# Altium footprint library Connector Footprints.PcbLib: 66 footprints (part 3 of 5)
Each footprint in its own frame and in the unit in brackets; x right, y up, seen from the top. Pads: shape width x height; smd on the part's side, far side on the other; paste and mask are expansions set on the pad; w line width, h text height; cw(c..) or ccw(c..) is an arc to the next point about the centre after c.
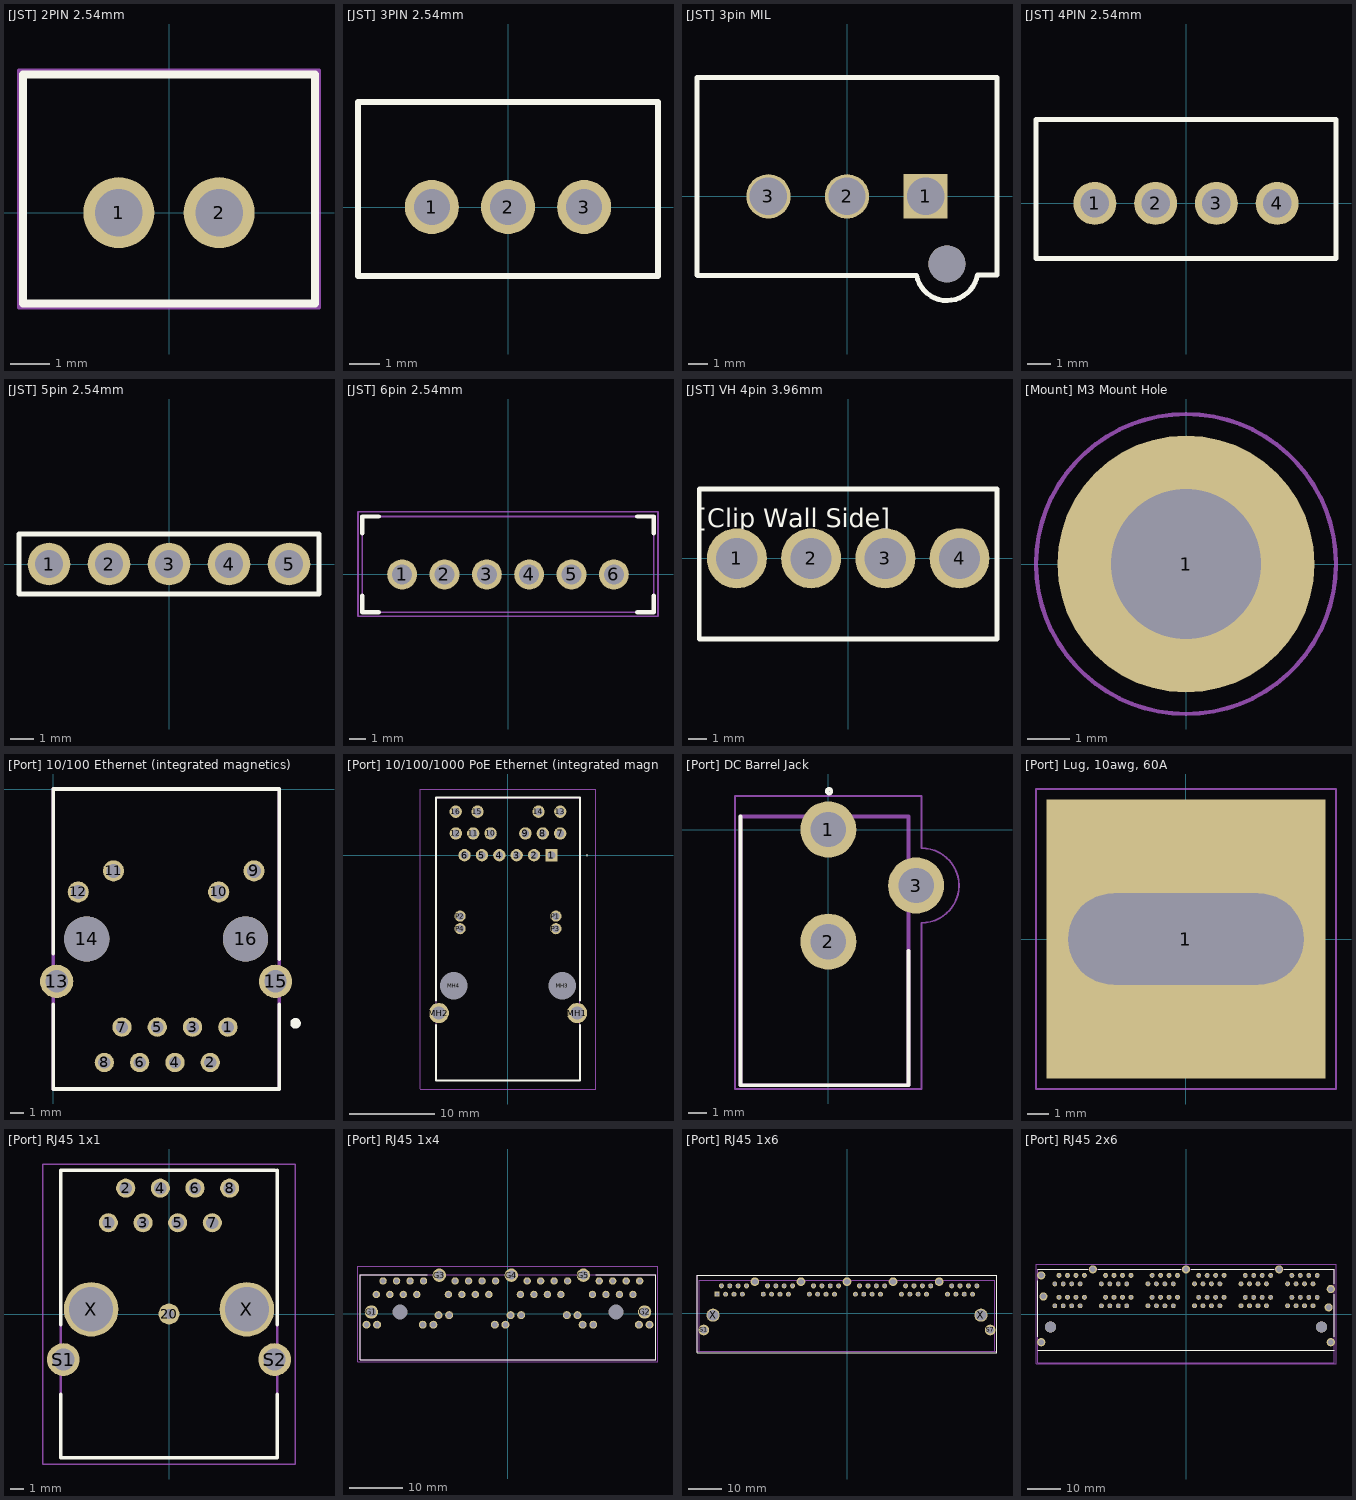
[diagram p2: the footprints below, top view; thin cyan lines are the x and y axes]

## [JST] 2PIN 2.54mm [mm]
pads (2):
  round 1.8 hole 1.2: 1(-1.27,0) 2(1.27,0)
Top Overlay:
  lines w0.2: -3.7,-2.3 -3.7,3.5 3.7,3.5 3.7,-2.3 -3.7,-2.3
Part Outline:
  lines w0.1: -3.8,-2.4 3.8,-2.4 3.8,3.6 -3.8,3.6 -3.8,-2.4
3D body "JST 2_54 2x.STEP": height 7.88, standoff -2.2, extent -3.67,-2.275 3.67,3.475

## [JST] 3PIN 2.54mm [mm]
pads (3):
  round 1.8 hole 1.2: 1(-2.54,0) 2(0,0) 3(2.54,0)
Top Overlay:
  lines w0.2: -5,-2.3 5,-2.3 5,3.5 -5,3.5 -5,-2.3
3D body "JST 2_54 3x.STEP": height 7.88, standoff -2.2, extent -5.01,-2.325 4.87,3.425

## [JST] 3pin MIL [mm]
pads (4):
  rect 2.24x2.24 hole 1.89: 1(3.96,0)
  round 2.24 hole 1.89: 2(0,0) 3(-3.96,0)
  round 1.86 hole 1.86 unplated: ""(5.04,-3.4)
Top Overlay:
  lines w0.254: 7.565,-3.952 6.912,-3.952 6.577,-3.952 cw(c5.043,-3.696) 3.513,-3.98 -7.545,-3.98 -7.565,-3.96 -7.565,6 7.565,6 7.565,-3.25 7.565,-3.895
3D body "c-1877285-3-c-3d.stp": height 12.01, standoff -3.61, extent -7.605,-4 7.525,5.885

## [JST] 4PIN 2.54mm [mm]
pads (4):
  round 1.8 hole 1.2: 1(-3.81,0) 2(-1.27,0) 3(1.27,0) 4(3.81,0)
Top Overlay:
  lines w0.2: -6.27,-2.3 -6.27,3.5 6.27,3.5 6.27,-2.3 -6.27,-2.3
Part Outline:
  lines w0.1: -6.27,-2.3 6.27,-2.3 6.27,3.492 6.262,3.5 -6.27,3.5 -6.27,-2.3
3D body "JST 2_54 4x.STEP": height 6.88, standoff -3.2, extent -6.27,-2.175 6.15,3.575

## [JST] 5pin 2.54mm [mm]
pads (5):
  round 1.8 hole 1.2: 1(-5.08,0) 2(-2.54,0) 3(0,0) 4(2.54,0) 5(5.08,0)
Top Overlay:
  lines w0.2: -6.35,-1.27 -6.35,1.27 6.35,1.27 6.35,-1.27 -6.35,-1.27
3D body "5pin JST female.step": height 7.14, standoff -3.45, extent -7.455,-2.405 7.455,3.5

## [JST] 6pin 2.54mm [mm] "2.54mm pitch"
pads (6):
  round 1.8 hole 1.2: 1(-6.35,0) 2(-3.81,0) 3(-1.27,0) 4(1.27,0) 5(3.81,0) 6(6.35,0)
Top Overlay:
  lines w0.254: -8.75,-1.275 -8.75,-2.275 -7.75,-2.275 ; -8.75,2.475 -8.75,3.475 -7.75,3.475 ; 7.75,-2.275 8.75,-2.275 8.75,-1.275 ; 7.75,3.475 8.75,3.475 8.75,2.475
Physical Drawing:
  lines w0.1: -8.75,-2.275 8.75,-2.275 8.75,3.475 -8.75,3.475 -8.75,-2.275
Part Outline:
  lines w0.1: -9,-2.5 9,-2.5 9,3.75 -9,3.75 -9,-2.5
3D body "JST 2_54 6x.STEP": height 6.88, standoff -3.2, extent -8.75,-2.275 8.75,3.475

## [JST] VH 4pin 3.96mm [mm]
pads (4):
  round 3.2 hole 2.2: 1(-5.94,0) 2(-1.98,0) 3(1.98,0) 4(5.94,0)
Top Overlay:
  lines w0.254: -7.94,-4.3 7.94,-4.3 7.94,3.7 -7.94,3.7 -7.94,-4.3
  text "[Clip Wall Side]" at -8.064,1.674 h1
3D body "JST VH 3.96mm 4pin.step": height 11.7, standoff -2.9, extent -7.94,-4.5 7.96,3.2

## [Mount] M3 Mount Hole [mm] "Place at least 4.5mm from board edge. Plated."
pads (1):
  round 6 hole 3.5: 1(0,0)
Part Outline:
  circle w0.1: c0,0 r3.5

## [Port] 10/100 Ethernet (integrated magnetics) [mm] "J0011D01BNL"
pads (16):
  round 1.39 hole 0.89: 1(12.575,-17.14) 2(11.305,-19.68) 3(10.035,-17.14) 4(8.765,-19.68) 5(7.495,-17.14) 6(6.225,-19.68) 7(4.955,-17.14) 8(3.685,-19.68)
  round 1.52 hole 1.02: 9(14.455,-5.89) 10(11.915,-7.41) 11(4.345,-5.89) 12(1.805,-7.41)
  round 2.4 hole 1.6: 13(0.255,-13.84) 15(16.005,-13.84)
  round 3.25 hole 3.25 unplated: 14(2.415,-10.79) 16(13.845,-10.79)
Top Overlay:
  circle w0.4: c17.443,-16.865 r0.178
  lines w0.254: 0,-15.504 0,-21.59 16.26,-21.59 16.26,-15.504 ; 0,-11.839 0,0 16.26,0 16.26,-12.258
Physical Drawing:
  lines w0.254: 0,-21.59 0,0 16.26,0 16.26,-21.59 0,-21.59
3D body "J0011D01BNL.stp": height 13.45, standoff -3.73, extent 0.025,-21.587 16.255,-0.004

## [Port] 10/100/1000 PoE Ethernet (integrated magnetics) [mm]
pads (24):
  rect 1.446x1.446 hole 0.89: 1(5.075,0)
  round 1.446 hole 0.89: 2(3.045,0) 3(1.015,0) 4(-1.015,0) 5(-3.045,0) 6(-5.075,0) 7(6.09,2.54) 8(4.06,2.54) 9(2.03,2.54) 10(-2.03,2.54) 11(-4.06,2.54) 12(-6.09,2.54) 13(6.1,5.08) 14(3.56,5.08) 15(-3.56,5.08) 16(-6.1,5.08)
  round 2.355 hole 1.57: MH1(8.065,-18.42) MH2(-8.065,-18.42)
  round 1.6 hole 3.2 unplated: MH3(6.35,-15.24) MH4(-6.35,-15.24)
  round 1.3 hole 0.89: P1(5.59,-7.11) P2(-5.59,-7.11) P3(5.59,-8.58) P4(-5.59,-8.58)
Top Overlay:
  lines w0.1: 9.175,0 cw(c9.225,0) 9.275,0 cw(c9.225,0) 9.175,0
  lines w0.2: -8.395,-19.8 -8.395,-26.29 8.395,-26.29 8.395,-19.8 ; -8.395,-17 -8.395,6.73 8.395,6.73 8.395,-17
Physical Drawing:
  lines w0.1: -8.395,-26.29 8.395,-26.29 8.395,6.73 -8.395,6.73 -8.395,-26.29
Part Outline:
  lines w0.1: -10.242,-27.29 10.242,-27.29 10.243,7.73 -10.242,7.73 -10.242,-27.29
3D body "85789-1006.stp": height 14.98, standoff -3.77, extent -9.59,-26.285 9.597,6.725

## [Port] DC Barrel Jack [mm]
pads (3):
  round 3 hole 1.9: 1(0,0) 2(0,-6) 3(4.7,-3)
Top Overlay:
  circle w0.2: c0.039,2.051 r0.119
  lines w0.2: -4.7,0.7 -4.7,-13.7 4.3,-13.7 4.3,-6.5
Physical Drawing:
  lines w0.2: -4.7,-13.7 4.3,-13.7 4.3,0.7 -4.7,0.7 -4.7,-13.7
Part Outline:
  lines w0.1: -5,-13.9 -5,1.8 5,1.8 5,-1 cw(c5,-3) 5,-5 5,-13.9 -5,-13.9
3D body "PJ-102A.stp": height 11.04, standoff -3.46, extent -4.42,-13.7 4.98,0.7

## [Port] Lug, 10awg, 60A [mm]
pads (1):
  rect 13x13 hole 4.25 slot 11 at 0 deg: 1(0,0)
Part Outline:
  lines w0.1: -7,-7 7,-7 7,7 -7,7 -7,-7
3D body "[Port] Lug, 10awg, 60A.stp": height 12.83, standoff -2.6, extent -4.267,-4.318 4.267,4.318

## [Port] RJ45 1x1 [mm] "1-1734580-1"
pads (13):
  round 1.4 hole 0.9: 1(-4.445,6.69) 2(-3.175,9.23) 3(-1.905,6.69) 4(-0.635,9.23) 5(0.635,6.69) 6(1.905,9.23) 7(3.175,6.69) 8(4.445,9.23)
  round 1.524 hole 0.762: 20(0,0)
  round 2.4 hole 1.6: S1(-7.745,-3.34) S2(7.745,-3.34)
  round 4 hole 3.25 unplated: X(-5.715,0.34) X(5.715,0.34)
Top Overlay:
  lines w0.1: 7.745,10.55 7.94,10.55
  lines w0.25: -7.94,-10.55 7.94,-10.55
  lines w0.254: -7.94,-10.55 -7.94,-5.88 ; -7.94,-0.8 -7.94,10.55 7.745,10.55 ; 7.94,-10.55 7.94,-5.88 ; 7.94,-0.8 7.94,10.55
Physical Drawing:
  lines w0.2: -7.94,-10.55 -7.94,10.55 7.94,10.55 7.94,-10.55 -7.94,-10.55
Part Outline:
  lines w0.1: -9.25,-11 -9.25,11 9.25,11 9.25,-11 -9.25,-11
3D body "[Port] RJ45 1x1.STEP": height 13.79, standoff -3.29, extent -8.037,-10.604 8.037,10.605

## [Port] RJ45 1x4 [mm] "E5J88-032-01-L"
pads (55):
  round 1.4 hole 0.9: A1(-24.8,3.68) A2(-23.53,6.22) A3(-22.26,3.68) A4(-20.99,6.22) A5(-19.72,3.68) A6(-18.45,6.22) A7(-17.18,3.68) A8(-15.91,6.22) B1(-11.23,3.68) B2(-9.96,6.22) B3(-8.69,3.68) B4(-7.42,6.22) B5(-6.15,3.68) B6(-4.88,6.22) B7(-3.61,3.68) B8(-2.34,6.22) C1(2.34,3.68) C2(3.61,6.22) C3(4.88,3.68) C4(6.15,6.22) C5(7.42,3.68) C6(8.69,6.22) C7(9.96,3.68) C8(11.23,6.22) D1(15.91,3.68) D2(17.18,6.22) D3(18.45,3.68) D4(19.72,6.22) D5(20.99,3.68) D6(22.26,6.22) D7(23.53,3.68) D8(24.8,6.22)
  round 1.5 hole 1: A9(-26.655,-2.02) A10(-24.655,-2.02) A11(-16.055,-2.02) A12(-14.055,-2.02) B9(-13.085,-0.22) B10(-11.085,-0.22) B11(-2.485,-2.02) B12(-0.485,-2.02) C9(0.485,-0.22) C10(2.485,-0.22) C11(11.085,-0.22) C12(13.085,-0.22) D9(14.055,-2.02) D10(16.055,-2.02) D11(24.655,-2.02) D12(26.655,-2.02)
  round 2.52 hole 1.68: G1(-25.725,0.38) G2(25.725,0.38) G3(-12.935,7.31) G4(0.635,7.31) G5(14.205,7.31)
  round 1.4 hole 2.8 unplated: MH1(-20.355,0.38) MH2(20.355,0.38)
Top Overlay:
  lines w0.1: -15.24,7.43 -27.85,7.43 -27.85,-8.57 27.85,-8.57 27.85,7.43 16.51,7.43
Physical Drawing:
  lines w0.2: -27.85,-8.57 27.85,-8.57 27.85,7.43 -27.85,7.43 -27.85,-8.57
Part Outline:
  lines w0.1: -28.25,-9 -28.25,9 28.25,9 28.25,-9 -28.25,-9
3D body "E5J88-032-01-L.stp": height 14.22, standoff -2.8, extent -27.85,-8.612 27.85,7.43

## [Port] RJ45 1x6 [mm] "0432238164"
pads (57):
  rect 1.509x1.509 hole 0.97: A1(-39.37,5.75)
  round 1.509 hole 0.97: A2(-38.1,8.29) A3(-36.83,5.75) A4(-35.56,8.29) A5(-34.29,5.75) A6(-33.02,8.29) A7(-31.75,5.75) A8(-30.48,8.29) B1(-25.4,5.75) B2(-24.13,8.29) B3(-22.86,5.75) B4(-21.59,8.29) B5(-20.32,5.75) B6(-19.05,8.29) B7(-17.78,5.75) B8(-16.51,8.29) C1(-11.43,5.75) C2(-10.16,8.29) C3(-8.89,5.75) C4(-7.62,8.29) C5(-6.35,5.75) C6(-5.08,8.29) C7(-3.81,5.75) C8(-2.54,8.29) D1(2.54,5.75) D2(3.81,8.29) D3(5.08,5.75) D4(6.35,8.29) D5(7.62,5.75) D6(8.89,8.29) D7(10.16,5.75) D8(11.43,8.29) E1(16.51,5.75) E2(17.78,8.29) E3(19.05,5.75) E4(20.32,8.29) E5(21.59,5.75) E6(22.86,8.29) E7(24.13,5.75) E8(25.4,8.29) F1(30.48,5.75) F2(31.75,8.29) F3(33.02,5.75) F4(34.29,8.29) F5(35.56,5.75) F6(36.83,8.29) F7(38.1,5.75) F8(39.37,8.29)
  round 3.24 hole 2.16: S1(-43.435,-5.1) S7(43.435,-5.1)
  round 2.64 hole 1.76: S2(-27.94,9.56) S3(-13.97,9.56) S4(0,9.56) S5(13.97,9.56) S6(27.94,9.56)
  round 4 hole 3.25 unplated: X(-40.64,-0.6) X(40.64,-0.6)
Top Overlay:
  lines w0.25: -45.5,-12 45.5,-12 45.5,11.5 -45.5,11.5 -45.5,-12
Physical Drawing:
  lines w0.1: -44.75,-11.5 44.75,-11.5 44.75,10 -44.75,10 -44.75,-11.5
Part Outline:
  lines w0.1: -45.5,-11.5 -45.5,11.5 45.5,11.5 45.5,-11.5 -45.5,-11.5
3D body "[Port] RJ45 1x6.stp": height 14.32, standoff -4.06, extent -44.772,-11.302 44.832,9.933

## [Port] RJ45 2x6 [mm]
pads (107):
  round 1.478 hole 0.97: A1(-39.37,2.465) A2(-38.1,5.005) A3(-36.83,2.465) A4(-35.56,5.005) A5(-34.29,2.465) A6(-33.02,5.005) A7(-31.75,2.465) A8(-30.48,5.005) B1(-30.48,11.585) B2(-31.75,9.045) B3(-33.02,11.585) B4(-34.29,9.045) B5(-35.56,11.585) B6(-36.83,9.045) B7(-38.1,11.585) B8(-39.37,9.045) C1(-25.4,2.465) C2(-24.13,5.005) C3(-22.86,2.465) C4(-21.59,5.005) C5(-20.32,2.465) C6(-19.05,5.005) C7(-17.78,2.465) C8(-16.51,5.005) D1(-16.51,11.585) D2(-17.78,9.045) D3(-19.05,11.585) D4(-20.32,9.045) D5(-21.59,11.585) D6(-22.86,9.045) D7(-24.13,11.585) D8(-25.4,9.045) E1(-11.43,2.465) E2(-10.16,5.005) E3(-8.89,2.465) E4(-7.62,5.005) E5(-6.35,2.465) E6(-5.08,5.005) E7(-3.81,2.465) E8(-2.54,5.005) F1(-2.54,11.585) F2(-3.81,9.045) F3(-5.08,11.585) F4(-6.35,9.045) F5(-7.62,11.585) F6(-8.89,9.045) F7(-10.16,11.585) F8(-11.43,9.045) G1(2.54,2.465) G2(3.81,5.005) G3(5.08,2.465) G4(6.35,5.005) G5(7.62,2.465) G6(8.89,5.005) G7(10.16,2.465) G8(11.43,5.005) H1(11.43,11.585) H2(10.16,9.045) H3(8.89,11.585) H4(7.62,9.045) H5(6.35,11.585) H6(5.08,9.045) H7(3.81,11.585) H8(2.54,9.045) I1(16.51,2.465) I2(17.78,5.005) I3(19.05,2.465) I4(20.32,5.005) I5(21.59,2.465) I6(22.86,5.005) I7(24.13,2.465) I8(25.4,5.005) J1(25.4,11.585) J2(24.13,9.045) J3(22.86,11.585) J4(21.59,9.045) J5(20.32,11.585) J6(19.05,9.045) J7(17.78,11.585) J8(16.51,9.045) K1(30.48,2.465) K2(31.75,5.005) K3(33.02,2.465) K4(34.29,5.005) K5(35.56,2.465) K6(36.83,5.005) K7(38.1,2.465) K8(39.37,5.005) L1(39.37,11.585) L2(38.1,9.045) L3(36.83,11.585) L4(35.56,9.045) L5(34.29,11.585) L6(33.02,9.045) L7(31.75,11.585) L8(30.48,9.045)
  round 2.475 hole 1.65: S1(-43.435,-8.455) S2(-42.775,5.255) S3(-43.435,11.585) S4(-27.94,13.385) S5(0,13.385) S6(27.94,13.385) S7(43.435,7.495) S8(42.775,1.985) S9(43.435,-8.455)
  round 3.33 hole 3.33 unplated: ""(-40.64,-3.885) ""(40.64,-3.885)
Top Overlay:
  lines w0.127: -44.525,-10.875 44.525,-10.875 ; -44.525,-6.895 -44.525,10.025 ; -44.525,13.395 -29.5,13.395 ; -26.38,13.395 -1.56,13.395 ; 1.56,13.395 26.38,13.395 ; 29.5,13.395 44.525,13.395 44.525,9.055 ; 44.525,-6.895 44.525,5.935
Physical Drawing:
  lines w0.127: 44.525,-10.875 -44.525,-10.875 ; -44.525,-10.875 -44.525,-14.625 44.525,-14.625 44.525,13.395 -44.525,13.395 -44.525,-10.875
Part Outline:
  lines w0.1: -45,-14.875 45,-14.875 45,14.875 -45,14.875 -45,-14.875
3D body "[Port] RJ45 2x6.STEP": height 26.51, standoff -3.79, extent -44.526,-14.644 44.526,13.88